# EAGLE library part FPC-21WAY (library pimoroni-fpc)
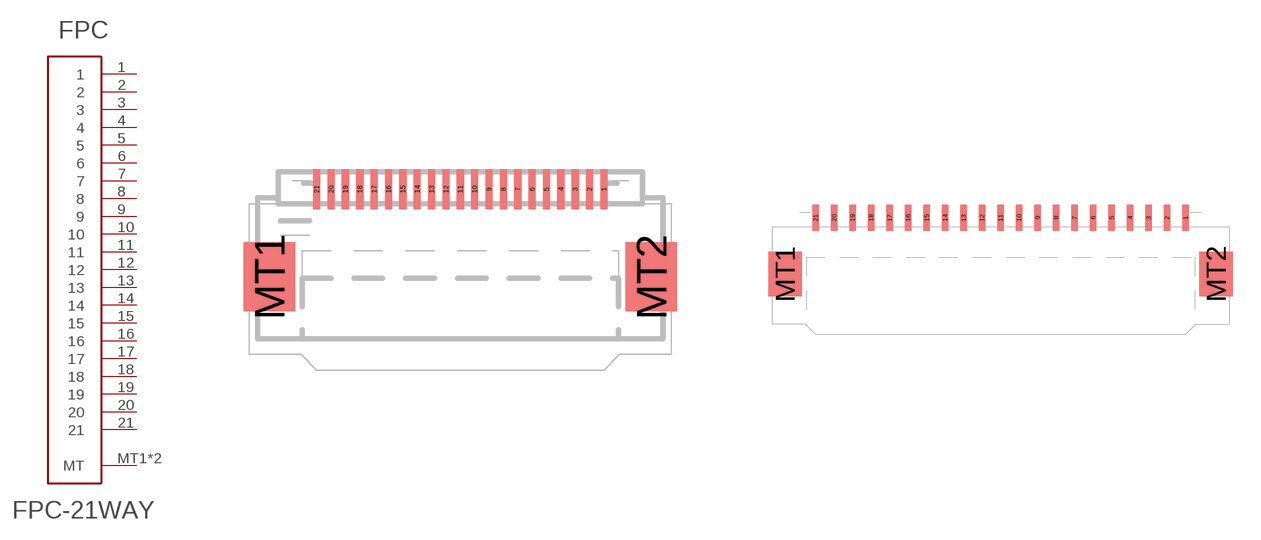
[diagram p16: symbol with the pads of FPC-0.5MM-21WAY; footprints FPC-0.5MM-21WAY, FPC-1.0MM-21WAY]

Designator prefix FPC

## FPC-21WAY0.5  [FPC-0.5MM-21WAY]
1  1
2  2
3  3
4  4
5  5
6  6
7  7
8  8
9  9
10  10
11  11
12  12
13  13
14  14
15  15
16  16
17  17
18  18
19  19
20  20
21  21
MT1  MT
MT2  MT

## FPC-21WAY1.0  [FPC-1.0MM-21WAY]
Pads as for FPC-0.5MM-21WAY

## Footprint FPC-0.5MM-21WAY (pad centres in mm)
smd 0.25 x 1.4: 1 5,0.7; 2 4.5,0.7; 3 4,0.7; 4 3.5,0.7; 5 3,0.7; 6 2.5,0.7; 7 2,0.7; 8 1.5,0.7; 9 1,0.7; 10 0.5,0.7; 11 0,0.7; 12 -0.5,0.7; 13 -1,0.7; 14 -1.5,0.7; 15 -2,0.7; 16 -2.5,0.7; 17 -3,0.7; 18 -3.5,0.7; 19 -4,0.7; 20 -4.5,0.7; 21 -5,0.7
smd 1.8 x 2.4: MT1 -6.65,-2.35; MT2 6.65,-2.35

## Footprint FPC-1.0MM-21WAY (pad centres in mm)
smd 0.35 x 1.4: 1 10,0.7; 2 9,0.7; 3 8,0.7; 4 7,0.7; 5 6,0.7; 6 5,0.7; 7 4,0.7; 8 3,0.7; 9 2,0.7; 10 1,0.7; 11 0,0.7; 12 -1,0.7; 13 -2,0.7; 14 -3,0.7; 15 -4,0.7; 16 -5,0.7; 17 -6,0.7; 18 -7,0.7; 19 -8,0.7; 20 -9,0.7; 21 -10,0.7
smd 1.8 x 2.4: MT1 -11.65,-2.35; MT2 11.65,-2.35